# Altium footprint library Sheye-Capacitor.PcbLib: 52 footprints (part 2 of 4)
Each footprint in its own frame and in the unit in brackets; x right, y up, seen from the top. Pads: shape width x height; smd on the part's side, far side on the other; paste and mask are expansions set on the pad; w line width, h text height; cw(c..) or ccw(c..) is an arc to the next point about the centre after c.
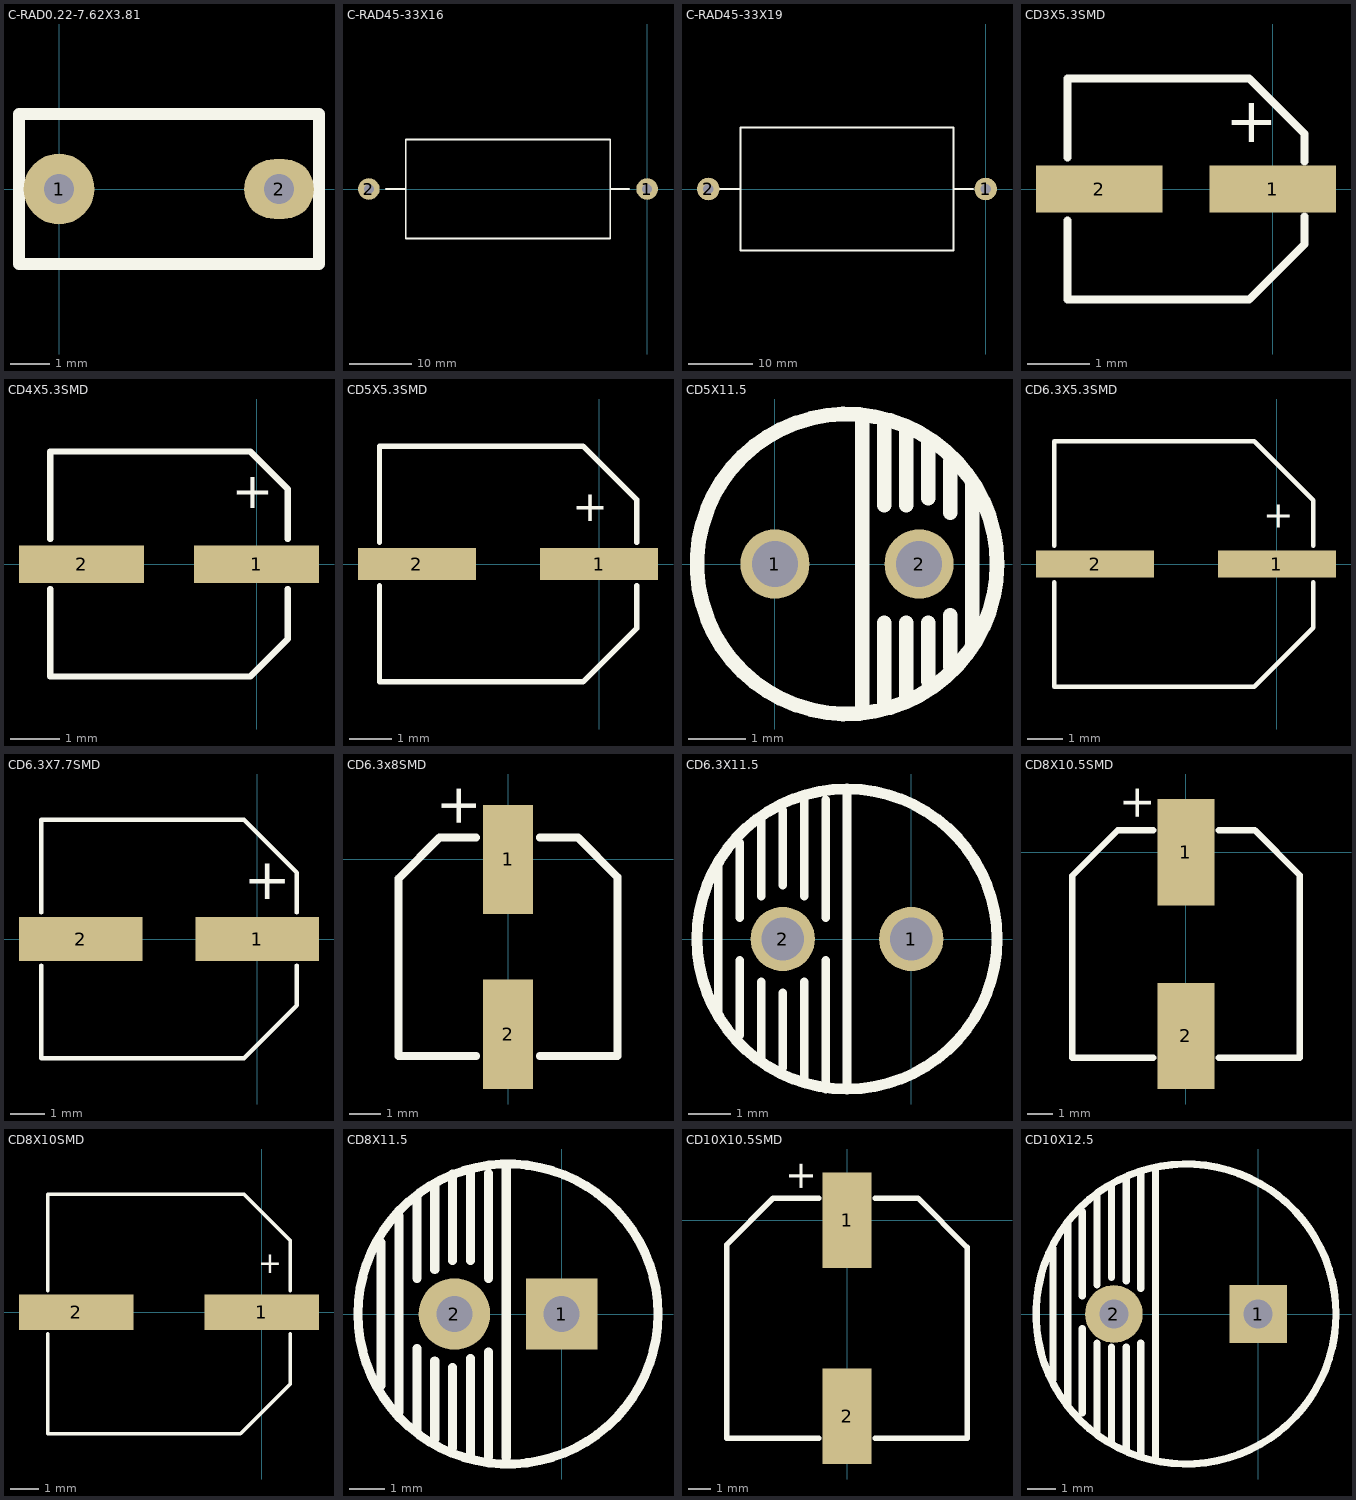
[diagram p1: the footprints below, top view; thin cyan lines are the x and y axes]

## C-RAD0.22-7.62X3.81 [mil] "RAD0.22(0.3/0.15)"
pads (2):
  round 70.87 hole 30: 1(0,0)
  oval 70x60 hole 30: 2(220,0)
Top Overlay:
  lines w12: -40,-75 -40,75 260,75 260,-75 -40,-75
3D body: height 300, standoff 10, extent -30,-40 250,40
3D body: height 10, standoff -100, extent -10,-10 9.92,9.96
3D body: height 10, standoff -100, extent 210.08,-9.98 230,9.98

## C-RAD45-33X16 [mm]
pads (2):
  round 3.5 hole 1.6: 1(0,0) 2(-45,0)
Top Overlay:
  lines w0.254: -42.283,0 -39,0 ; -6,0 -2.913,0 ; -39,-8 -6,-8 -6,8 -39,8 -39,-8
3D body: height 8.13, standoff 7.12, extent -45.421,-0.506 -35.261,0.508
3D body: height 8.13, standoff 7.12, extent -9.739,-0.508 0.421,0.506
3D body: height 7.62, standoff -2.54, extent -0.591,-0.508 0.421,0.506
3D body: height 7.62, standoff -2.54, extent -45.591,-0.508 -44.579,0.506
3D body: height 15.18, standoff 0, extent -38.735,-7.62 -6.477,7.59

## C-RAD45-33X19 [mm]
pads (2):
  round 3.5 hole 1.6: 1(0,0) 2(-43,0)
Top Overlay:
  lines w0.254: -41.283,0 -38,0 ; -5,0 -1.913,0 ; -38,-9.524 -5,-9.524 -5,9.524 -38,9.524 -38,-9.524
3D body: height 8.13, standoff 7.12, extent -43,-0.507 -32.84,0.507
3D body: height 8.13, standoff 7.12, extent -10.16,-0.5 0,0.514
3D body: height 7.62, standoff -2.54, extent -0.5,-0.507 0.512,0.507
3D body: height 7.62, standoff -2.54, extent -43.5,-0.507 -42.488,0.507
3D body: height 15.18, standoff 0, extent -37.735,-7.62 -5.477,7.59

## CD3X5.3SMD [mil] "A"
pads (2):
  rect 80x30 smd: 1(0,0) 2(-110,0)
Top Overlay:
  lines w5: -130,-20 -130,-70 -15,-70 20,-35 20,-17.5 ; -130,20 -130,70 -15,70 20,35 20,17.5
  text "+" at -30,20 h50
3D body: height 212.6, standoff 0, extent -125.87,-65 15.87,64.92

## CD4X5.3SMD [mil] "B"
pads (2):
  rect 100x30 smd: 1(0,0) 2(-140,0)
Top Overlay:
  lines w5: -165,-20 -165,-90 -5,-90 25,-60 25,-20 ; -165,20 -165,90 -5,90 25,60 25,20
  text "+" at -20,35 h50
3D body: height 204.72, standoff 0, extent -160,-85 21.1,84.29

## CD5X5.3SMD [mil] "C"
pads (2):
  rect 110x30 smd: 1(0,0) 2(-170,0)
Top Overlay:
  lines w5: -205,-20 -205,-110 -15,-110 35,-60 35,-20 ; -205,20 -205,110 -15,110 35,60 35,20
  text "+" at -25,30 h50
3D body: height 212.99, standoff 0, extent -200,-105 32.28,103.66

## CD5X11.5 [mm] "C-RB1.5/5"
pads (2):
  round 1.2 hole 0.8: 1(0,0) 2(2.5,0)
Top Overlay:
  circle w0.254: c1.25,0 r2.6
  lines w0.254: 1.516,-2.54 1.516,-0.762 1.516,2.54 ; 1.897,-2.413 1.897,-1.016 ; 1.897,1.016 1.897,2.413 ; 2.278,-2.286 2.278,-1.016 ; 2.278,1.016 2.278,2.286 ; 2.659,-2.032 2.659,-1.016 ; 2.659,1.143 2.659,2.159 ; 3.04,-1.778 3.04,-0.889 ; 3.04,0.889 3.04,1.778 ; 3.421,-1.397 3.421,1.397
3D body: height 0.5, standoff -1, extent 2.09,-0.399 2.887,0.399
3D body: height 0.5, standoff -1, extent -0.41,-0.399 0.387,0.399
3D body: height 11.58, standoff 0.08, extent -1.369,-2.667 3.81,2.523

## CD6.3X5.3SMD [mil] "D"
pads (2):
  rect 130x30 smd: 1(0,0) 2(-200,0)
Top Overlay:
  lines w5: -245,-20 -245,-135 -25,-135 40,-70 40,-20 ; -245,20 -245,135 -25,135 40,70 40,20
  text "+" at -15,30 h50
3D body: height 212.6, standoff 0, extent -237.8,-130 37.8,129.84

## CD6.3X7.7SMD [mil] "E"
pads (2):
  rect 140x50 smd: 1(0,0) 2(-200,0)
Top Overlay:
  lines w5: -245,-30 -245,-135 -15,-135 45,-75 45,-30 ; -245,30 -245,135 -15,135 45,75 45,30
  text "+" at -15,30 h80
3D body: height 204.72, standoff 0, extent -237.8,-130 37.8,129.84

## CD6.3x8SMD [mm]
pads (2):
  rect 1.6x3.5 smd: 1(0,0) 2(0,-5.6)
Top Overlay:
  lines w0.254: -1.024,0.7 -2.19,0.7 -3.5,-0.61 -3.5,-6.3 -1.016,-6.3 ; 1.016,-6.3 3.5,-6.3 3.5,-0.56 2.24,0.7 1.016,0.7
  text "+" at -1.016,0.985 h1.27
3D body: height 8.3, standoff 0.3, extent -3.2,-5.987 3.174,0.4
3D body: height 2, standoff 0.2, extent -3.327,-6.127 3.327,0.527
3D body: height 0.2, standoff 0, extent -0.533,-1.505 0.508,1.188
3D body: height 0.2, standoff 0, extent -0.533,-6.762 0.508,-4.07

## CD6.3X11.5 [mm] "C-RB2/6.4"
pads (2):
  round 1.5 hole 1: 1(0,0) 2(-3,0)
Top Overlay:
  circle w0.254: c-1.5,0 r3.5
  lines w0.2: -4.5,-1.75 -4.5,-1.5 -4.5,1.75 ; -4,-2.25 -4,-0.5 ; -4,0.5 -4,2.25 ; -3.5,-2.75 -3.5,-1 ; -3.5,1 -3.5,2.75 ; -3,-3 -3,-1.25 ; -3,1.25 -3,3 ; -2.5,-3.25 -2.5,-1 ; -2.5,1 -2.5,3.25 ; -2,-3.5 -2,-3.25 -2,-0.75 -2,-0.5 ; -2,0.5 -2,3.25 ; -1.5,-3.5 -1.5,3.5
3D body: height 11.58, standoff 0.08, extent -4.624,-3.144 1.651,3.144
3D body: height 0.25, standoff -2.54, extent -0.254,-0.254 0.252,0.253
3D body: height 0.25, standoff -2.54, extent -3.254,-0.254 -2.748,0.253

## CD8X10.5SMD [mm]
pads (2):
  rect 2.2x4.1 smd: 1(0,0) 2(0,-7.1)
Top Overlay:
  lines w0.254: -4.4,-0.914 -4.4,-7.95 -1.27,-7.95 ; -4.375,-0.889 -2.636,0.85 -1.27,0.85 ; 1.27,-7.95 4.4,-7.95 4.4,-0.889 2.661,0.85 1.27,0.85
  text "+" at -1.346,1.174 h1.27
3D body: height 10.8, standoff 0.3, extent -3.988,-7.546 3.981,0.438
3D body: height 2, standoff 0.2, extent -4.191,-7.741 4.191,0.641
3D body: height 0.2, standoff 0, extent -0.66,-8.478 0.584,-5.48
3D body: height 0.2, standoff 0, extent -0.635,-1.62 0.61,1.378

## CD8X10SMD [mil]
pads (2):
  rect 160x50 smd: 1(0,0) 2(-260,0)
Top Overlay:
  lines w5: -300,-30 -300,-170 -30,-170 40,-100 40,-30 ; -300,30 -300,165 -25,165 40,100 40,30
  text "+" at -5,45 h50
3D body: height 401.57, standoff 0, extent -325,-165 64.76,161.77

## CD8X11.5 [mm] "C-RB3.4/8"
pads (2):
  rect 2x2 hole 1: 1(0,0)
  round 2 hole 1: 2(-3,0)
Top Overlay:
  circle w0.254: c-1.5,0 r4.2
  lines w0.254: -5.05,-2 -5.05,2 ; -4.55,-2.75 -4.55,2.75 ; -4.05,-3.25 -4.05,-0.964 ; -4.05,1 -4.05,3.286 ; -3.55,-3.5 -3.55,-1.321 ; -3.55,1.25 -3.55,3.536 ; -3.05,-3.75 -3.05,-1.5 ; -3.05,1.5 -3.05,3.913 ; -2.55,-4 -2.55,-1.25 ; -2.55,1.5 -2.55,4.04 ; -2.05,-4 -2.05,-1.063 ; -2.05,1 -2.05,3.937 ; -1.55,-4 -1.55,4.128
3D body: height 0.25, standoff -2.54, extent -0.054,-0.254 0.452,0.253
3D body: height 0.25, standoff -2.54, extent -3.454,-0.254 -2.948,0.253
3D body: height 11.63, standoff 0.08, extent -5.408,-3.972 2.486,3.937

## CD10X10.5SMD [mm]
pads (2):
  rect 2.2x4.3 smd: 1(0,0) 2(0,-8.8)
Top Overlay:
  lines w0.254: -1.27,-9.8 -5.4,-9.8 -5.4,-1.088 -3.312,1 -1.27,1 ; 1.27,-9.8 5.4,-9.8 5.4,-1.215 3.185,1 1.27,1
  text "+" at -1.524,1.264 h1.27
3D body: height 0.2, standoff 0, extent -0.66,-1.733 0.66,1.467
3D body: height 0.2, standoff 0, extent -0.66,-10.217 0.66,-7.016
3D body: height 2, standoff 0.2, extent -5.207,-9.607 5.207,0.807
3D body: height 10.8, standoff 0.3, extent -4.98,-9.376 4.98,0.604

## CD10X12.5 [mm] "C-RB5/10"
pads (2):
  rect 2x2 hole 1: 1(0,0)
  round 2 hole 1: 2(-5,0)
Top Overlay:
  circle w0.254: c-2.5,0 r5.2
  lines w0.254: -7.112,-2.286 -7.112,2.286 ; -6.604,-3.175 -6.604,3.175 ; -6.096,-3.429 -6.096,-0.508 ; -6.096,0.635 -6.096,3.556 ; -5.588,-4.064 -5.588,-1.016 ; -5.588,1.016 -5.588,4.064 ; -5.08,-4.445 -5.08,-1.143 ; -5.08,1.27 -5.08,4.445 ; -4.572,-4.699 -4.572,-1.143 ; -4.572,1.143 -4.572,4.699 ; -4.064,-4.826 -4.064,-1.016 ; -4.064,0.889 -4.064,4.826 ; -3.556,-5.08 -3.556,4.953
3D body: height 12.58, standoff 0.08, extent -7.52,-4.953 2.44,5.027
3D body: height 0.25, standoff -2.54, extent -0.254,-0.254 0.252,0.253
3D body: height 0.25, standoff -2.54, extent -5.254,-0.254 -4.748,0.253